# EAGLE library part NACHTELK_COMMUNICATION-BT_TB03F (library NachtElk_Communication_BT)
Nacht Elk. - Comunication BT Technologies Ekrem Turan Fırat Nacht Elk. - TB-03F Company: AI-Thinker Model: TB-03F Operating Voltage: 2,7V up to 3,6V Frequency Range: 2400 MHz up to 2483.5 MHz Wireless Standart: BT 5.0 Transmission Distance: Open Line of Sight: 80m up to 150m Operating temperature: -40 °C up to +85°C Package: TB-03F Datasheet <https://docs.ai-thinker.com/_media/ble/docs/tb-03f_product_specification_en_v1.0.pdf> 24.06.2022
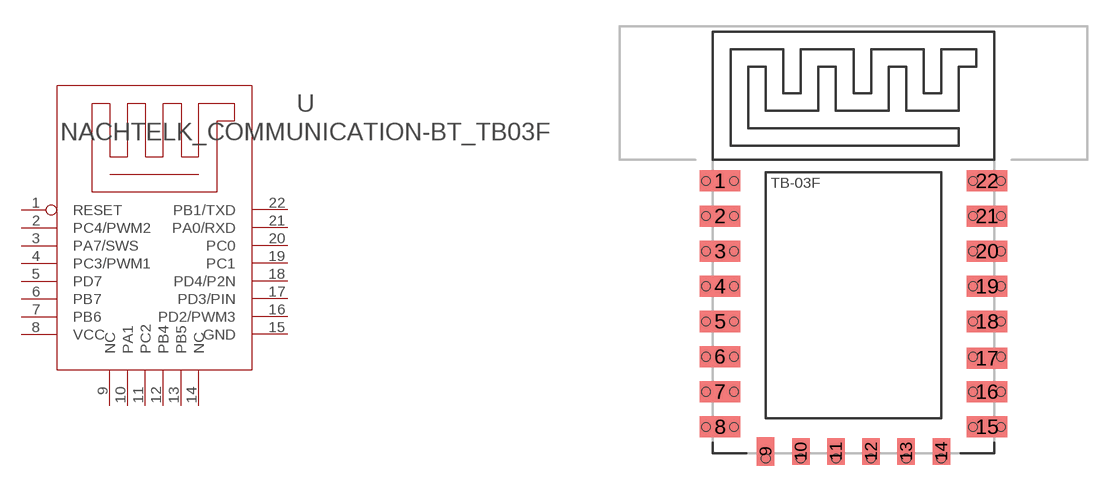
[diagram p0: symbol with the pads of TB-03F; footprint TB-03F]

Designator prefix U

## NACHTELK_COMMUNICATION-BT_TB03F (COMPANY: AI-Thinker; DISTANCE: 80m up to 150m; FREQUENCY: 2400 MHz up to 2483,5 MHz; MODEL: TB-03F; PACKAGE: TB-03F; PART-NUMBER: TB-03F; TEMPERATURE: -40℃ up to +85℃; VALUE: TB-03F; VOLTAGE: 2,7V up to 3,6V; WIRELESS-STANDART: BT 5.0)  [TB-03F]
1  RESET  pwr
2  PC4/PWM2
3  PA7/SWS
4  PC3/PWM1
5  PD7
6  PB7
7  PB6
8  VCC  pwr
9  NC  nc
10  PA1
11  PC2
12  PB4
13  PB5
14  NC  nc
15  GND  pwr
16  PD2/PWM3
17  PD3/PIN
18  PD4/P2N
19  PC1
20  PC0
21  PA0/RXD
22  PB1/TXD

## Footprint TB-03F (pad centres in mm)
Nacht Elk. - Communication BT Technologies Ekrem Turan Fırat Package: TB-03F Dimensions(LxWxH): 24x16x3 mm Datasheet < <https://docs.ai-thinker.com/_media/ble/docs/tb-03f_product_specification_en_v1.0.pdf> 24.06.2022
smd 2.3 x 1.2: 1 -7.22,6.61; 2 -7.22,4.61; 3 -7.22,2.61; 4 -7.22,0.61; 5 -7.22,-1.39; 6 -7.22,-3.39; 7 -7.22,-5.39; 8 -7.22,-7.39; 15 7.98,-7.39; 16 7.98,-5.39; 17 7.98,-3.49; 18 7.98,-1.39; 19 7.98,0.61; 20 7.98,2.61; 21 7.98,4.61; 22 7.98,6.61
smd 1 x 1.6: 9 -4.62,-8.79
smd 1 x 1.5: 10 -2.62,-8.79; 11 -0.62,-8.79; 12 1.38,-8.79; 13 3.38,-8.79; 14 5.38,-8.79
hole 0.5 at -6.42,-7.39
hole 0.5 at -6.42,-5.39
hole 0.5 at -6.42,-3.39
hole 0.5 at -6.42,-1.39
hole 0.5 at -6.42,0.61
hole 0.5 at -6.42,2.61
hole 0.5 at -6.42,4.61
hole 0.5 at -6.42,6.61
hole 0.5 at 7.18,-7.39
hole 0.5 at 7.18,-5.39
hole 0.5 at 7.18,-3.39
hole 0.5 at 7.18,-1.39
hole 0.5 at 7.18,0.61
hole 0.5 at 7.18,2.61
hole 0.5 at 7.18,4.61
hole 0.5 at 7.18,6.61
hole 0.5 at 8.78,-7.39
hole 0.5 at 8.78,-5.39
hole 0.5 at 8.78,-3.39
hole 0.5 at 8.78,-1.39
hole 0.5 at 8.78,0.61
hole 0.5 at 8.78,2.61
hole 0.5 at 8.78,4.61
hole 0.5 at 8.78,6.61
hole 0.5 at -8.02,-7.39
hole 0.5 at -8.02,-5.39
hole 0.5 at -8.02,-3.39
hole 0.5 at -8.02,-1.39
hole 0.5 at -8.02,0.61
hole 0.5 at -8.02,2.61
hole 0.5 at -8.02,4.61
hole 0.5 at -8.02,6.61
hole 0.5 at -4.62,-9.19
hole 0.5 at -2.62,-9.19
hole 0.5 at -0.62,-9.19
hole 0.5 at 1.38,-9.19
hole 0.5 at 3.38,-9.19
hole 0.5 at 5.38,-9.19